# EAGLE library part UT3232 (library new_parts)
Unisonic Technologies - UT3232 TThe UTC UT3232 has two receivers and two drivers, and a dual charge-pump circuit. The device meets the requirements of TIA/EIA-232-F and provides the electrical interface between an asynchronous communication controller and the serial-port connector. The charge pump and four small external capacitors allow operation from a single 3.0V to 5.5V supply. The device operates at data signaling rates up to 250kbit/s and a maximum of 35V/μs driver output slew rate.
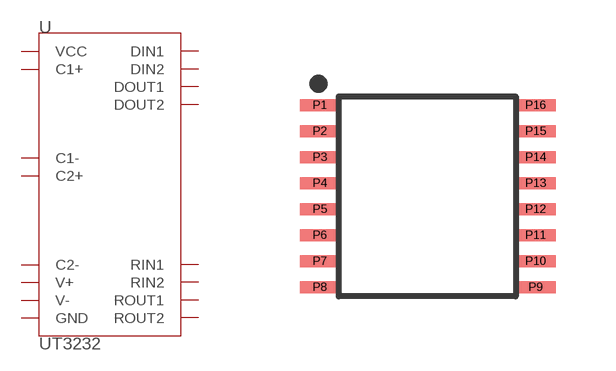
[diagram p0: symbol with the pads of TSSOP16; footprint TSSOP16]

Designator prefix U

## UT3232 (PROD_ID: IC-21317)  [TSSOP16]
P1  C1+
P2  V+
P3  C1-
P4  C2+
P5  C2-
P6  V-
P7  DOUT2
P8  RIN2
P9  ROUT2
P10  DIN2
P11  DIN1
P12  ROUT1
P13  RIN1
P14  DOUT1
P15  GND
P16  VCC

## Footprint TSSOP16 (pad centres in mm)
TSSOP16 Mechanical Specifications: Pad Size: 1mm x .3mm Pin count: 16 Pin pitch: .65mm Package Size: 4.4mm x 5mm Datasheet referenced for footprint <https://assets.maxlinear.com/web/documents/sp3222eb_sp3232eb.pdf>
smd 1 x 0.3: P1 -2.607,2.153; P2 -2.607,1.503; P3 -2.607,0.853; P4 -2.607,0.203; P5 -2.607,-0.447; P6 -2.607,-1.097; P7 -2.607,-1.747; P8 -2.607,-2.397; P9 2.793,-2.397; P10 2.793,-1.747; P11 2.793,-1.097; P12 2.793,-0.447; P13 2.793,0.203; P14 2.793,0.853; P15 2.793,1.503; P16 2.793,2.153